# Altium schematic symbol library VL53L5.SchLib: 2 symbols
Pins are listed as number, name and electrical type; pins without a type are passive.

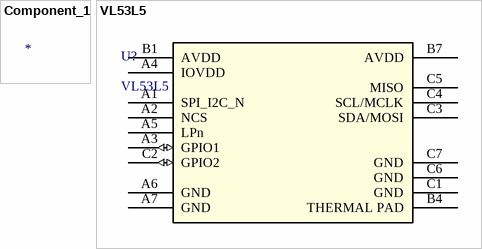
[diagram p0: symbols Component_1 to VL53L5]

## Component_1
designator *  (value not drawn)

## VL53L5
designator U?
No Description Available; Built_By: EMA_Matt; Vendor: STMicroelectronics; SourceLibrary: Update_to_database_2021-02-23; Datasheet: https://www.st.com/resource/en/data_brief/vl53l5.pdf; Copyright: Copyright (C) 2018 Accelerated Designs. All rights reserved; Manufacturer_Part_Number: VL53L5; RefDes: RefDes; Type: DEV
footprint ARRAY_53L5_STM
pins: A1 SPI_I2C_N, A2 NCS, A3 GPIO1 (io), A4 IOVDD (power), A5 LPn, A6 GND, A7 GND, B1 AVDD (power), B4 THERMAL PAD, B7 AVDD (power), C1 GND, C2 GPIO2 (io), C3 SDA/MOSI, C4 SCL/MCLK, C5 MISO, C6 GND, C7 GND